# EAGLE library part DEVICE-PCB (library Modulo)
Modulo Footprint
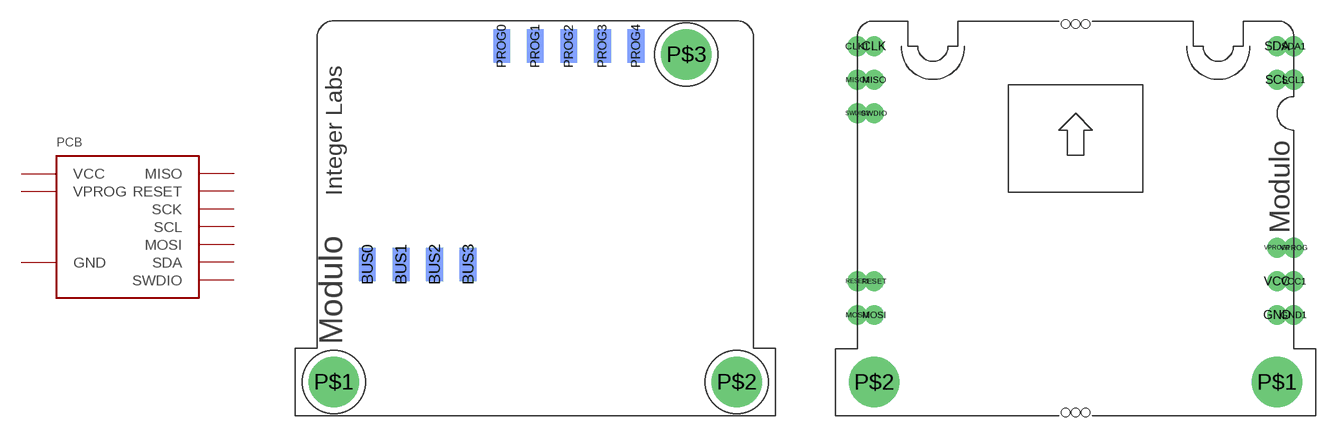
[diagram p5: symbol with the pads of DEVICE-PCB-OLD; footprints DEVICE-PCB-OLD, DEVICE-PCB-TABS]

Designator prefix PCB

## DEVICE-PCB-OLD (VALUE: EXCLUDE)  [DEVICE-PCB-OLD]
BUS0  GND
BUS1  SDA
BUS2  VCC
BUS3  SCL
PROG0  VPROG
PROG1  RESET
PROG2  SCK
PROG3  MISO
PROG4  MOSI

## DEVICE-PCB-TABS  [DEVICE-PCB-TABS]
CLK  SCK
CLK1  SCK
GND  GND
GND1  GND
MISO  MISO
MISO1  MISO
MOSI  MOSI
MOSI1  MOSI
RESET  RESET
RESET1  RESET
SCL  SCL
SCL1  SCL
SDA  SDA
SDA1  SDA
SWDIO  SWDIO
SWDIO2  SWDIO
VCC  VCC
VCC1  VCC
VPROG  VPROG
VPROG1  VPROG

## DEVICE-PCB  [DEVICE-PCB]
CLK  SCK
GND  GND
MISO  MISO
MOSI  MOSI
RESET  RESET
SCL  SCL
SDA  SDA
SWDIO  SWDIO
VCC  VCC
VPROG  VPROG

## Footprint DEVICE-PCB-OLD (pad centres in mm)
smd 1.27 x 2.54 bottom: BUS0 5.08,11.43; BUS1 7.62,11.43; BUS2 10.16,11.43; BUS3 12.7,11.43; PROG0 15.24,27.94; PROG1 17.78,27.94; PROG2 20.32,27.94; PROG3 22.86,27.94; PROG4 25.4,27.94
drill 2.223 pad 3.81: P$1 2.54,2.54; P$2 33.02,2.54; P$3 29.21,27.305

## Footprint DEVICE-PCB-TABS (pad centres in mm)
drill 0.991: CLK -15.24,30.48; CLK1 -16.51,30.48; GND 15.24,10.16; GND1 16.51,10.16; MISO -15.24,27.94; MISO1 -16.51,27.94; MOSI -15.24,10.16; MOSI1 -16.51,10.16; RESET -15.24,12.7; RESET1 -16.51,12.7; SCL 15.24,27.94; SCL1 16.51,27.94; SDA 15.24,30.48; SDA1 16.51,30.48; SWDIO -15.24,25.4; SWDIO2 -16.51,25.4; VCC 15.24,12.7; VCC1 16.51,12.7; VPROG 16.51,15.24; VPROG1 15.24,15.24
drill 2.223 pad 3.81: P$1 15.24,5.08; P$2 -15.24,5.08
hole 0.635 at 0.762,32.156
hole 0.635 at 0,32.156
hole 0.635 at -0.762,32.156
hole 0.635 at -0.762,2.769
hole 0.635 at 0,2.769
hole 0.635 at 0.762,2.769

## Footprint DEVICE-PCB (pad centres in mm)
drill 0.991: CLK 2.54,20.32; GND 33.02,17.78; MISO 2.54,17.78; MOSI 2.54,25.4; RESET 33.02,20.32; SCL 2.54,22.86; SDA 2.54,27.94; SWDIO 33.02,22.86; VCC 33.02,25.4; VPROG 33.02,27.94
drill 2.223 pad 3.81: P$1 2.54,2.54; P$2 33.02,2.54